# EAGLE library part QSBT40 (library diode_bridge)
Diode bridge quad bus terminator 30V 100mA 5ns
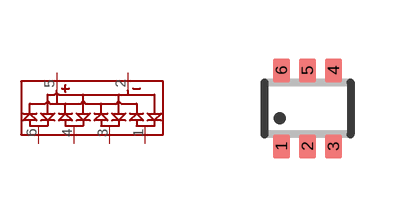
[diagram p0: symbol with the pads of SOT363; footprint SOT363]

Designator prefix D

## QSBT40 (OC_FARNELL: 1773484)  [SOT363]
1  4  pas
2  GND  pwr
3  3  pas
4  2  pas
5  VCC  pwr
6  1  pas

## Footprint SOT363 (pad centres in mm)
Small Outline Transistor; 6 leads Philips Semiconductors, SOT363.pdf
smd 0.42 x 0.6: 1 -0.65,-0.95; 2 0,-0.95; 3 0.65,-0.95; 4 0.65,0.95; 5 0,0.95; 6 -0.65,0.95